# Altium schematic symbol library Components.SchLib: 47 symbols
Pins are listed as number, name and electrical type; pins without a type are passive.

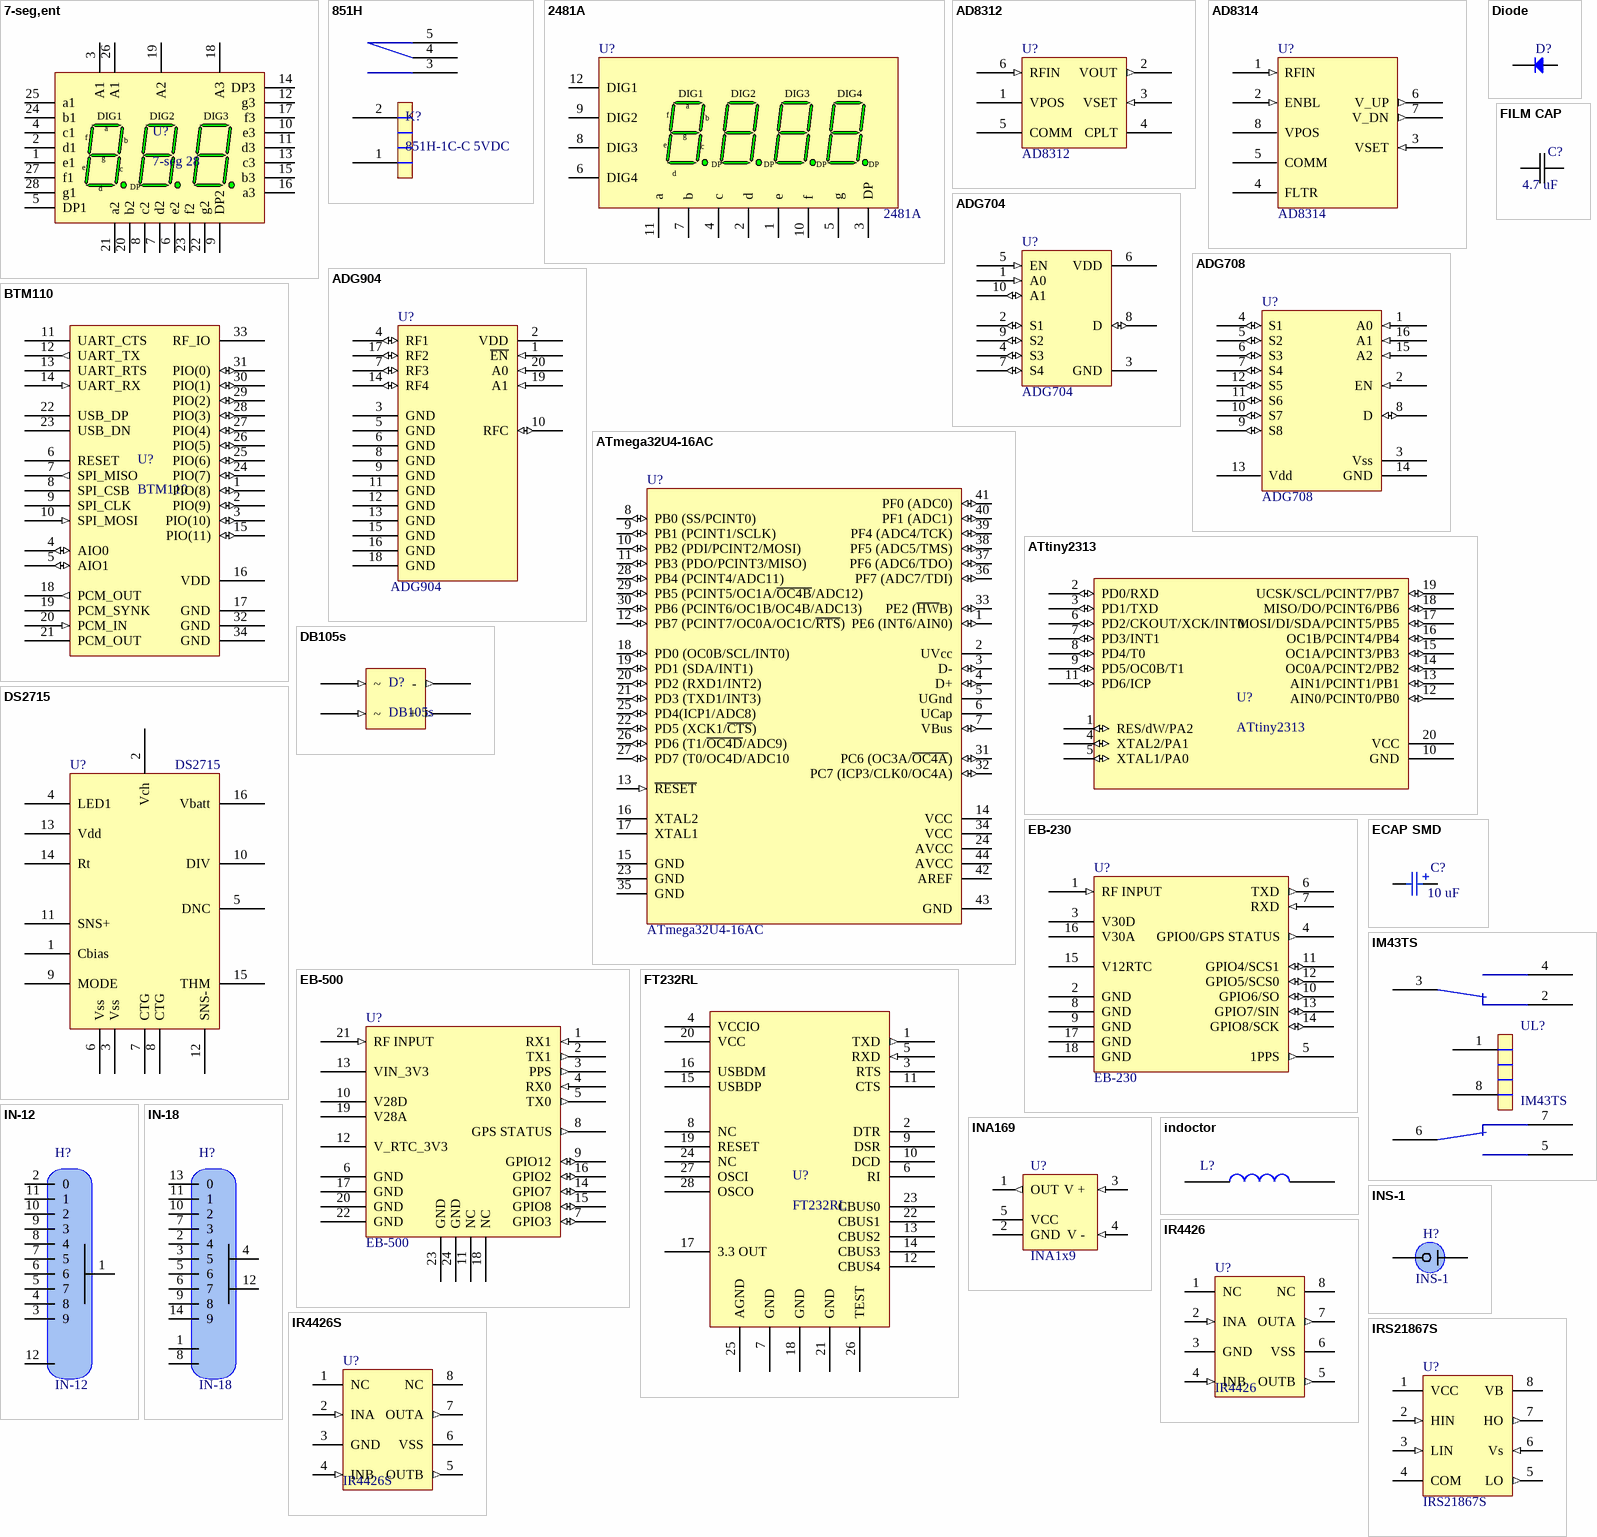
[diagram p0: symbols 7-seg,ent to IRS21867S]

## 7-seg,ent
designator U?, comment 7-seg 28
7-segment
footprint 7-seg 28
pins: 1 e1 "Digits (1-3) e Cathode", 2 d1 "Digits (1-3) d Cathode", 3 A1 "Common Anode1", 4 c1 "Digits (1-3) c Cathode", 5 DP1 "DP Cathode", 6 e2 "Digits (1-3) e Cathode", 7 d2 "Digits (1-3) d Cathode", 8 c2 "Digits (1-3) c Cathode", 9 DP2 "DP Cathode", 10 e3 "Digits (1-3) e Cathode", 11 d3 "Digits (1-3) d Cathode", 12 g3 "Digits (1-3) g Cathode", 13 c3 "Digits (1-3) c Cathode", 14 DP3 "DP Cathode", 15 b3 "Digits (1-3) b Cathode", 16 a3 "Digits (1-3) a Cathode", 17 f3 "Digits (1-3) f Cathode", 18 A3 "L1, L2 & L3 Common Anode", 19 A2 "Common Anode3", 20 b2 "Digits (1-3) b Cathode", 21 a2 "Digits (1-3) a Cathode", 22 g2 "Digits (1-3) g Cathode", 23 f2 "Digits (1-3) f Cathode", 24 b1 "Digits (1-3) b Cathode", 25 a1 "Digits (1-3) a Cathode", 26 A1 "Common Anode2", 27 f1 "Digits (1-3) f Cathode", 28 g1 "Digits (1-3) g Cathode"
text: DIG1; DIG2; DIG3; a; f; b; g; e; c; d; DP

## 851H
designator K?, comment 851H-1C-C 5VDC
footprint 851H
pins: 1, 2, 3, 4, 5

## 2481A
designator U?
7-segment, common-catode
footprint 2481A
pins: 1 e "Digits (1-3) e Cathode", 2 d "Digits (1-3) d Cathode", 3 DP "Common Anode1", 4 c "Digits (1-3) c Cathode", 5 g "DP Cathode", 6 DIG4 "Digits (1-3) e Cathode", 7 b "Digits (1-3) d Cathode", 8 DIG3 "Digits (1-3) c Cathode", 9 DIG2 "DP Cathode", 10 f "Digits (1-3) e Cathode", 11 a "Digits (1-3) d Cathode", 12 DIG1 "Digits (1-3) g Cathode"

## AD8312
designator U?
AD logarithmic amplifier
footprint 6-Ball WLCSP
pins: 1 VPOS (power), 2 VOUT (out), 3 VSET (in), 4 CPLT, 5 COMM (power), 6 RFIN (in)

## AD8314
designator U?
The AD8314 is a complete low cost subsystem for the measurement and control of RF signals in the frequency range of 100 MHz to 2.7 GHz
footprint MSOP8
pins: 1 RFIN (in), 2 ENBL (in), 3 VSET (in), 4 FLTR, 5 COMM (power), 6 V_UP (out), 7 V_DN (out), 8 VPOS (power)

## ADG704
designator U?
Logic Multiplexer
footprint uSOIC-10
pins: 1 A0 (in), 2 S1 (io), 3 GND (power), 4 S3 (io), 5 EN (in), 6 VDD (power), 7 S4 (io), 8 D (io), 9 S2 (io), 10 A1 (io)

## ADG708
designator U?
The ADG708 are low voltage, CMOS analog multiplexers comprising eight single channels and four differential channels, respectively
footprint TSSOP16 (Shrink Small Outline; 16 Leads; Body Width 4.4 mm; Pitch 0.65 mm)
pins: 1 A0 (in), 2 EN (in), 3 Vss (power), 4 S1 (io), 5 S2 (io), 6 S3 (io), 7 S4 (io), 8 D (io), 9 S8 (io), 10 S7 (io), 11 S6 (io), 12 S5 (io), 13 Vdd (power), 14 GND (power), 15 A2 (in), 16 A1 (in)

## ADG904
designator U?
RF Multiplexor
footprint TSSOP20_L (TSOP, 20-Leads, Body 6.5x4.4mm, Pitch 0.65mm, IPC High Density)
footprint TSSOP20_M (TSOP, 20-Leads, Body 6.5x4.4mm, Pitch 0.65mm, IPC Low Density)
footprint TSSOP20_N (TSOP, 20-Leads, Body 6.5x4.4mm, Pitch 0.65mm, IPC Medium Density)
pins: 1 ~{EN} (in), 2 VDD (power), 3 GND (power), 4 RF1 (io), 5 GND (power), 6 GND (power), 7 RF3 (io), 8 GND (power), 9 GND (power), 10 RFC (io), 11 GND (power), 12 GND (power), 13 GND (power), 14 RF4 (io), 15 GND (power), 16 GND (power), 17 RF2 (io), 18 GND (power), 19 A1 (in), 20 A0 (in)

## ATmega32U4-16AC
designator U?
8-Bit AVR Microcontroller with 32K Bytes of In-System Programmable Flash Memory; Published: 17-Sep-2003; LatestRevisionDate: 13-Apr-2006; LatestRevisionNote: IPC-7351 Footprint Added.; DatasheetVersion: 2503C-AVR-10/02; PackageVersion: rev.B, Oct-2001; PackageReference: 44A; Publisher: Altium Limited; PackageDescription: 44-Pin Thin Quad Flat Pack 0.8 mm Pitch; ComponentLink1Description: Manufacturer Link; ComponentLink1URL: http://www.atmel.com; ComponentLink2Description: Datasheet; ComponentLink2URL: http://www.atmel.com/dyn/resources/prod_documents/doc2503.pdf
footprint 44A_N (Thin QFP, 44-Leads, Body 10x10mm, Pitch 0.8mm, IPC Medium Density)
footprint 44A_L (Thin QFP, 44-Leads, Body 10x10mm, Pitch 0.8mm, IPC High Density)
footprint 44A_M (Thin QFP, 44-Leads, Body 10x10mm, Pitch 0.8mm, IPC Low Density)
3D model ATMEGA32-44A (PCB3D Model)
pins: 1 PE6 (INT6/AIN0) (io), 2 UVcc (power), 3 D- (io), 4 D+ (io), 5 UGnd (power), 6 UCap, 7 VBus (io), 8 PB0 (SS/PCINT0) (io), 9 PB1 (PCINT1/SCLK) (io), 10 PB2 (PDI/PCINT2/MOSI) (io), 11 PB3 (PDO/PCINT3/MISO) (io), 12 PB7 (PCINT7/OC0A/OC1C/~{RTS}) (io), 13 ~{RESET} (in), 14 VCC (power), 15 GND (power), 16 XTAL2, 17 XTAL1, 18 PD0 (OC0B/SCL/INT0) (io), 19 PD1 (SDA/INT1) (io), 20 PD2 (RXD1/INT2) (io), 21 PD3 (TXD1/INT3) (io), 22 PD5 (XCK1/~{CTS}) (io), 23 GND (power), 24 AVCC (power), 25 PD4(ICP1/ADC8) (io), 26 PD6 (T1/~{OC4D}/ADC9) (io), 27 PD7 (T0/OC4D/ADC10 (io), 28 PB4 (PCINT4/ADC11) (io), 29 PB5 (PCINT5/OC1A/~{OC4B}/ADC12) (io), 30 PB6 (PCINT6/OC1B/OC4B/ADC13) (io), 31 PC6 (OC3A/~{OC4A}) (io), 32 PC7 (ICP3/CLK0/OC4A) (io), 33 PE2 (~{HW}B) (io), 34 VCC (power), 35 GND (power), 36 PF7 (ADC7/TDI) (io), 37 PF6 (ADC6/TDO) (io), 38 PF5 (ADC5/TMS) (io), 39 PF4 (ADC4/TCK) (io), 40 PF1 (ADC1) (io), 41 PF0 (ADC0) (io), 42 AREF, 43 GND (power), 44 AVCC (power)

## ATtiny2313
designator U?
footprint 20S_N (SOIC, 20-Leads, Body 12.8x7.5mm, Pitch 1.27mm, IPC Medium Density)
footprint 20S_M (SOIC, 20-Leads, Body 12.8x7.5mm, Pitch 1.27mm, IPC Low Density)
footprint 20S_L (SOIC, 20-Leads, Body 12.8x7.5mm, Pitch 1.27mm, IPC High Density)
pins: 1 RES/dW/PA2 (io), 2 PD0/RXD (io), 3 PD1/TXD (io), 4 XTAL2/PA1 (io), 5 XTAL1/PA0 (io), 6 PD2/CKOUT/XCK/INT0 (io), 7 PD3/INT1 (io), 8 PD4/T0 (io), 9 PD5/OC0B/T1 (io), 10 GND (power), 11 PD6/ICP (io), 12 AIN0/PCINT0/PB0 (io), 13 AIN1/PCINT1/PB1 (io), 14 OC0A/PCINT2/PB2 (io), 15 OC1A/PCINT3/PB3 (io), 16 OC1B/PCINT4/PB4 (io), 17 MOSI/DI/SDA/PCINT5/PB5 (io), 18 MISO/DO/PCINT6/PB6 (io), 19 UCSK/SCL/PCINT7/PB7 (io), 20 VCC (power)

## BTM110
designator U?
footprint BTM110
pins: 1 PIO(8) (io), 2 PIO(9) (io), 3 PIO(10) (io), 4 AIO0 (io), 5 AIO1 (io), 6 RESET, 7 SPI_MISO (out), 8 SPI_CSB, 9 SPI_CLK, 10 SPI_MOSI (in), 11 UART_CTS, 12 UART_TX (out), 13 UART_RTS, 14 UART_RX (in), 15 PIO(11) (io), 16 VDD (power), 17 GND (power), 18 PCM_OUT (out), 19 PCM_SYNK, 20 PCM_IN (in), 21 PCM_OUT, 22 USB_DP, 23 USB_DN, 24 PIO(7) (io), 25 PIO(6) (io), 26 PIO(5) (io), 27 PIO(4) (io), 28 PIO(3) (io), 29 PIO(2) (io), 30 PIO(1) (io), 31 PIO(0) (io), 32 GND (power), 33 RF_IO, 34 GND (power)

## DB105s
designator D?
footprint DB-1s
pins: 1 + (out), 2 - (out), 3 ~ (in), 4 ~ (in)

## Diode
designator D?  (value not drawn)
footprint SOD323 (SOD-323/SC-76; 2 Leads; Body 1.7 x 1.3 mm, (LxW))
pins: 1, 2

## DS2715
designator U?
NiMH Battarty Pack Charge Controller
footprint SO16_L (Footprint not found)
footprint SO16_M (Footprint not found)
footprint SO16_N (Footprint not found)
pins: 1 Cbias, 2 Vch, 3 Vss, 4 LED1, 5 DNC, 6 Vss, 7 CTG, 8 CTG, 9 MODE, 10 DIV, 11 SNS+, 12 SNS-, 13 Vdd, 14 Rt, 15 THM, 16 Vbatt

## EB-230
designator U?
footprint EB-230
pins: 1 RF INPUT (in), 2 GND (power), 3 V30D (power), 4 GPIO0/GPS STATUS (out), 5 1PPS (out), 6 TXD (out), 7 RXD (in), 8 GND (power), 9 GND (power), 10 GPIO6/SO (io), 11 GPIO4/SCS1 (io), 12 GPIO5/SCS0 (io), 13 GPIO7/SIN (io), 14 GPIO8/SCK (io), 15 V12RTC (power), 16 V30A (power), 17 GND (power), 18 GND (power)

## EB-500
designator U?
footprint EB-500
pins: 1 RX1 (in), 2 TX1 (out), 3 PPS (out), 4 RX0 (in), 5 TX0 (out), 6 GND (power), 7 GPIO3 (io), 8 GPS STATUS (out), 9 GPIO12 (io), 10 V28D (power), 11 NC, 12 V_RTC_3V3 (power), 13 VIN_3V3 (power), 14 GPIO7 (io), 15 GPIO8 (io), 16 GPIO2 (io), 17 GND (power), 18 NC, 19 V28A (power), 20 GND (power), 21 RF INPUT (in), 22 GND (power), 23 GND (power), 24 GND (power)

## ECAP SMD
designator C?  value 10 uF  (hidden comment: *)
ECAP
footprint ECAP SMD 0605
footprint ECAP SMD 1010
footprint ECAP SMD 0810
footprint ECAP SMD 0405
pins: 1, 2

## FILM CAP
designator C?, comment value 4.7 uF  (hidden comment: Film Cap)
footprint Cap 10
footprint CAP 15
footprint CAP 20
pins: 1, 2

## FT232RL
designator U?
footprint FT232RL
pins: 1 TXD (out), 2 DTR, 3 RTS, 4 VCCIO (power), 5 RXD (in), 6 RI, 7 GND (power), 8 NC, 9 DSR, 10 DCD, 11 CTS, 12 CBUS4, 13 CBUS2, 14 CBUS3, 15 USBDP, 16 USBDM, 17 3.3 OUT, 18 GND, 19 RESET, 20 VCC (power), 21 GND (power), 22 CBUS1, 23 CBUS0, 24 NC, 25 AGND (power), 26 TEST, 27 OSCI, 28 OSCO

## IM43TS
designator UL?
footprint IM43TS
pins: 1, 2, 3, 4, 5, 6, 7, 8

## IN-12
designator H?
footprint IN-12
pins: 1, 2 0, 3 9, 4 8, 5 7, 6, 7 5, 8 4, 9 3, 10 2, 11 1, 12

## IN-18
designator H?
footprint IN-18
pins: 1, 2 4, 3 5, 4, 5 6, 6 7, 7 3, 8, 9 8, 10 2, 11 1, 12, 13 0, 14 9

## INA169
designator U?, comment INA1x9
footprint DIOD-SOT23-5_V (SOT23, 5-Leads, Body 3.1x1.7mm, Pitch 0.95mm)
pins: 1 OUT (out), 2 GND (power), 3 V +  (in), 4  V -  (in), 5 VCC (power)

## indoctor
designator L?, comment Induction  (value not drawn)
footprint CDRH127/LD
footprint IHLP
footprint MCDR1419
footprint Inductor-vert
pins: 1, 2

## INS-1
designator H?
footprint INS-1
pins: 1, 2

## IR4426
designator U?
Double Channel Driver; Note: Pins 4 and 5 not connected (NC).; Published: 8-Jun-2000; LatestRevisionDate: 13-Apr-2006; LatestRevisionNote: IPC-7351 Footprint Added.; DatasheetVersion: PD60146I; PackageVersion: Feb-2001; PackageReference: SO-8; Publisher: Altium Limited; PackageDescription: 8-Pin Plastic Small Outline Integrated Circuit 1.27 mm Pitch; Code_JEDEC: MS-012-AA; Code_IPC: SOIC127P600-8; ComponentLink1Description: Manufacturer Link; ComponentLink1URL: http://www.irf.com/; ComponentLink2Description: Datasheet; ComponentLink2URL: http://www.irf.com/product-info/datasheets/data/ir2117.pdf
footprint PDIP8 (DIP; 8 Leads; Row Spacing 7.62 mm; Pitch 2.54 mm)
pins: 1 NC, 2 INA (in), 3 GND (power), 4 INB (in), 5 OUTB (out), 6 VSS (power), 7 OUTA (out), 8 NC

## IR4426S
designator U?
Double Channel Driver; Note: Pins 4 and 5 not connected (NC).; Published: 8-Jun-2000; LatestRevisionDate: 13-Apr-2006; LatestRevisionNote: IPC-7351 Footprint Added.; DatasheetVersion: PD60146I; PackageVersion: Feb-2001; PackageReference: SO-8; Publisher: Altium Limited; PackageDescription: 8-Pin Plastic Small Outline Integrated Circuit 1.27 mm Pitch; Code_JEDEC: MS-012-AA; Code_IPC: SOIC127P600-8; ComponentLink1Description: Manufacturer Link; ComponentLink1URL: http://www.irf.com/; ComponentLink2Description: Datasheet; ComponentLink2URL: http://www.irf.com/product-info/datasheets/data/ir2117.pdf
footprint SO-8_N (SOIC, 8-Leads, Body 4.9x3.9mm, Pitch 1.27mm, IPC Medium Density)
footprint SO-8_L (SOIC, 8-Leads, Body 4.9x3.9mm, Pitch 1.27mm, IPC High Density)
footprint SO-8_M (SOIC, 8-Leads, Body 4.9x3.9mm, Pitch 1.27mm, IPC Low Density)
pins: 1 NC, 2 INA (in), 3 GND (power), 4 INB (in), 5 OUTB (out), 6 VSS (power), 7 OUTA (out), 8 NC

## IRS21867S
designator U?
Double Channel Driver; Note: Pins 4 and 5 not connected (NC).; Published: 8-Jun-2000; LatestRevisionDate: 13-Apr-2006; LatestRevisionNote: IPC-7351 Footprint Added.; DatasheetVersion: PD60146I; PackageVersion: Feb-2001; PackageReference: SO-8; Publisher: Altium Limited; PackageDescription: 8-Pin Plastic Small Outline Integrated Circuit 1.27 mm Pitch; Code_JEDEC: MS-012-AA; Code_IPC: SOIC127P600-8; ComponentLink1Description: Manufacturer Link; ComponentLink1URL: http://www.irf.com/; ComponentLink2Description: Datasheet; ComponentLink2URL: http://www.irf.com/product-info/datasheets/data/ir2117.pdf
footprint SO-8_N (SOIC, 8-Leads, Body 4.9x3.9mm, Pitch 1.27mm, IPC Medium Density)
footprint SO-8_L (SOIC, 8-Leads, Body 4.9x3.9mm, Pitch 1.27mm, IPC High Density)
footprint SO-8_M (SOIC, 8-Leads, Body 4.9x3.9mm, Pitch 1.27mm, IPC Low Density)
pins: 1 VCC (power), 2 HIN (in), 3 LIN (in), 4 COM (power), 5 LO (out), 6 Vs (in), 7 HO (out), 8 VB (power)

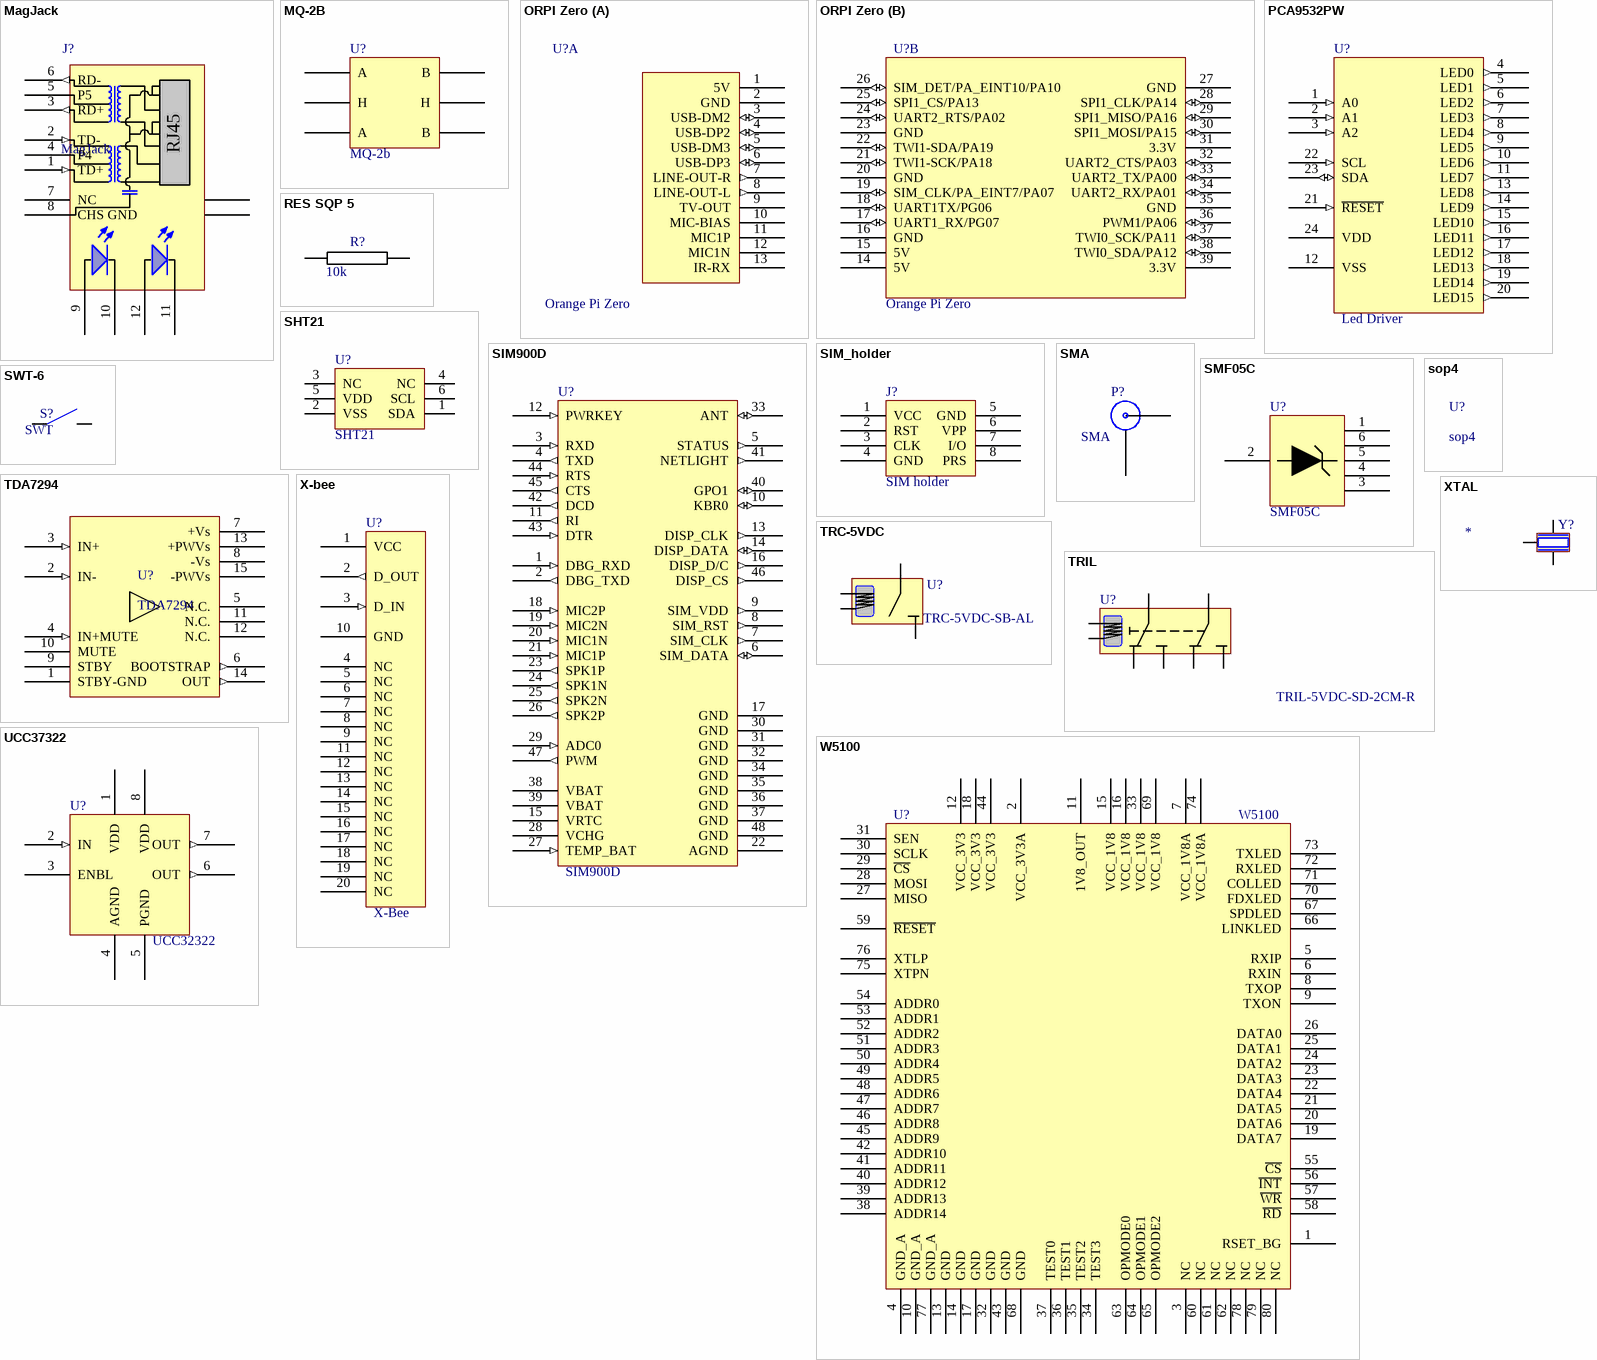
[diagram p1: symbols MagJack to XTAL]

## MagJack
designator J?
footprint MagJack
pins: 1 TD+ (in), 2 TD- (in), 3 RD+ (out), 4 P4, 5 P5, 6 RD- (out), 7 NC, 8 CHS GND (power), 9 (power), 10 (power), 11 (power), 12 (power), MH1, MH2
text: RJ45

## MQ-2B
designator U?, comment MQ-2b
Gas sensor
footprint MQ
pins: A, A1 A, B, B1 B, H, H1 H

## ORPI Zero
designator U?, comment Orange Pi Zero
footprint ORPI
part A pins: 1 5V (power), 2 GND (power), 3 USB-DM2 (io), 4 USB-DP2 (io), 5 USB-DM3 (io), 6 USB-DP3 (io), 7 LINE-OUT-R (out), 8 LINE-OUT-L (out), 9 TV-OUT, 10 MIC-BIAS, 11 MIC1P, 12 MIC1N, 13 IR-RX
part B pins: 14 5V (power), 15 5V (power), 16 GND (power), 17 UART1_RX/PG07 (io), 18 UART1TX/PG06 (io), 19 SIM_CLK/PA_EINT7/PA07 (io), 20 GND (power), 21 TWI1-SCK/PA18 (io), 22 TWI1-SDA/PA19 (io), 23 GND (power), 24 UART2_RTS/PA02 (io), 25 SPI1_CS/PA13 (io), 26 SIM_DET/PA_EINT10/PA10 (io), 27 GND (power), 28 SPI1_CLK/PA14 (io), 29 SPI1_MISO/PA16 (io), 30 SPI1_MOSI/PA15 (io), 31 3.3V (power), 32 UART2_CTS/PA03 (io), 33 UART2_TX/PA00 (io), 34 UART2_RX/PA01 (io), 35 GND (power), 36 PWM1/PA06 (io), 37 TWI0_SCK/PA11 (io), 38 TWI0_SDA/PA12 (io), 39 3.3V (power)

## PCA9532PW
designator U?, comment Led Driver
16-bit I2C-bus LED dimmer
footprint TSSOP24_N (TSOP, 24-Leads, Body 7.8x4.4mm, Pitch 0.65mm, IPC Medium Density)
footprint TSSOP24_M (TSOP, 24-Leads, Body 7.8x4.4mm, Pitch 0.65mm, IPC Low Density)
footprint TSSOP24_L (TSOP, 24-Leads, Body 7.8x4.4mm, Pitch 0.65mm, IPC High Density)
pins: 1 A0 (in), 2 A1 (in), 3 A2 (in), 4 LED0 (out), 5 LED1 (out), 6 LED2 (out), 7 LED3 (out), 8 LED4 (out), 9 LED5 (out), 10 LED6 (out), 11 LED7 (out), 12 VSS (power), 13 LED8 (out), 14 LED9 (out), 15 LED10 (out), 16 LED11 (out), 17 LED12 (out), 18 LED13 (out), 19 LED14 (out), 20 LED15 (out), 21 ~{RESET} (in), 22 SCL (in), 23 SDA (io), 24 VDD (power)

## RES SQP 5
designator R?  value 10k  (hidden comment: *)
footprint RES SQP-5
pins: 1, 2

## SHT21
designator U?
Humidity and Temperature Sensor
footprint DFN6
pins: 1 SDA, 2 VSS (power), 3 NC, 4 NC, 5 VDD (power), 6 SCL

## SIM900D
designator U?
GSM/GPRS module
footprint SIM900d
pins: 1 DBG_RXD (in), 2 DBG_TXD (out), 3 RXD (in), 4 TXD (out), 5 STATUS (out), 6 SIM_DATA (io), 7 SIM_CLK (out), 8 SIM_RST (out), 9 SIM_VDD (out), 10 KBR0 (io), 11 RI (out), 12 PWRKEY (in), 13 DISP_CLK (out), 14 DISP_DATA (io), 15 VRTC (power), 16 DISP_D/C (out), 17 GND (power), 18 MIC2P (in), 19 MIC2N (in), 20 MIC1N (in), 21 MIC1P (in), 22 AGND (power), 23 SPK1P (out), 24 SPK1N (out), 25 SPK2N (out), 26 SPK2P (out), 27 TEMP_BAT (in), 28 VCHG (power), 29 ADC0 (in), 30 GND (power), 31 GND (power), 32 GND (power), 33 ANT (io), 34 GND (power), 35 GND (power), 36 GND (power), 37 GND (power), 38 VBAT (power), 39 VBAT (power), 40 GPO1 (io), 41 NETLIGHT (out), 42 DCD (out), 43 DTR (in), 44 RTS (in), 45 CTS (out), 46 DISP_CS (out), 47 PWM (out), 48 GND (power)

## SIM_holder
designator J?, comment SIM holder
footprint SIM_HOLDER
pins: 1 VCC, 2 RST, 3 CLK, 4 GND, 5 GND, 6 VPP, 7 I/O, 8 PRS

## SMA
designator P?
footprint SMA_
pins: 1, 2 1

## SMF05C
designator U?
TVS Diode Array
footprint SOT363 (SOT-363/SC-88; 6 Leads; Body 2.2 x 2.2 mm, inc. leads (LxW max))
pins: 1, 2, 3, 4, 5, 6

## sop4
designator U?
footprint SOP4

## SWT-6
designator S?, comment SWT
footprint SWT-6
footprint FSM2JSMA
pins: 1, 2, 3, 4

## TDA7294
designator U?
footprint TDA7294
pins: 1 STBY-GND, 2 IN- (in), 3 IN+ (in), 4 IN+MUTE (in), 5 N.C., 6 BOOTSTRAP (out), 7 +Vs (power), 8 -Vs (power), 9 STBY, 10 MUTE, 11 N.C., 12 N.C., 13 +PWVs (power), 14 OUT (out), 15 -PWVs (power)

## TRC-5VDC
designator U?, comment TRC-5VDC-SB-AL
5VDC relay
footprint TRC
pins: 1, 2, 3, 4

## TRIL
designator U?, comment TRIL-5VDC-SD-2CM-R
footprint TRILL
pins: 1, 2, 3, 4, 5, 6, 7, 8

## UCC37322
designator U?, comment UCC32322
footprint SO-8_L (SOIC, 8-Leads, Body 4.9x3.9mm, Pitch 1.27mm, IPC High Density)
footprint SO-8_M (SOIC, 8-Leads, Body 4.9x3.9mm, Pitch 1.27mm, IPC Low Density)
footprint SO-8_N (SOIC, 8-Leads, Body 4.9x3.9mm, Pitch 1.27mm, IPC Medium Density)
pins: 1 VDD (power), 2 IN (in), 3 ENBL, 4 AGND (power), 5 PGND (power), 6 OUT (out), 7 OUT (out), 8 VDD (power)

## W5100
designator U?
Wiznet Ethrnet module
footprint LQFP 80
pins: 1 RSET_BG, 2 VCC_3V3A (power), 3 NC, 4 GND_A (power), 5 RXIP, 6 RXIN, 7 VCC_1V8A (power), 8 TXOP, 9 TXON, 10 GND_A (power), 11 1V8_OUT (power), 12 VCC_3V3 (power), 13 GND (power), 14 GND (power), 15 VCC_1V8 (power), 16 VCC_1V8 (power), 17 GND (power), 18 VCC_3V3 (power), 19 DATA7, 20 DATA6, 21 DATA5, 22 DATA4, 23 DATA3, 24 DATA2, 25 DATA1, 26 DATA0, 27 MISO, 28 MOSI, 29 ~{CS}, 30 SCLK, 31 SEN, 32 GND (power), 33 VCC_1V8 (power), 34 TEST3, 35 TEST2, 36 TEST1, 37 TEST0, 38 ADDR14, 39 ADDR13, 40 ADDR12, 41 ADDR11, 42 ADDR10, 43 GND (power), 44 VCC_3V3 (power), 45 ADDR9, 46 ADDR8, 47 ADDR7, 48 ADDR6, 49 ADDR5, 50 ADDR4, 51 ADDR3, 52 ADDR2, 53 ADDR1, 54 ADDR0, 55 ~{CS}, 56 ~{INT}, 57 ~{WR}, 58 ~{RD}, 59 ~{RESET}, 60 NC, 61 NC, 62 NC, 63 OPMODE0, 64 OPMODE1, 65 OPMODE2, 66 LINKLED, 67 SPDLED, 68 GND (power), 69 VCC_1V8 (power), 70 FDXLED, 71 COLLED, 72 RXLED, 73 TXLED, 74 VCC_1V8A (power), 75 XTPN, 76 XTLP, 77 GND_A (power), 78 NC, 79 NC, 80 NC

## X-bee
designator U?, comment X-Bee
footprint X-bee
pins: 1 VCC (power), 2 D_OUT (out), 3 D_IN (in), 4 NC, 5 NC, 6 NC, 7 NC, 8 NC, 9 NC, 10 GND (power), 11 NC, 12 NC, 13 NC, 14 NC, 15 NC, 16 NC, 17 NC, 18 NC, 19 NC, 20 NC

## XTAL
designator Y?
XTAL
footprint KX-9
footprint KX-13
footprint KX-6
footprint KX-7
pins: 1, 2, 3, 4